# EAGLE library part CDCLVC1112 (library cdclvc11xx_10)
CDCLVC1112 3.3V and 2.5V LVCMOS High-Performance Clock Buffer - 1:12 Fan-out Source: http://www.ti.com/lit/ds/symlink/cdclvc1112.pdf
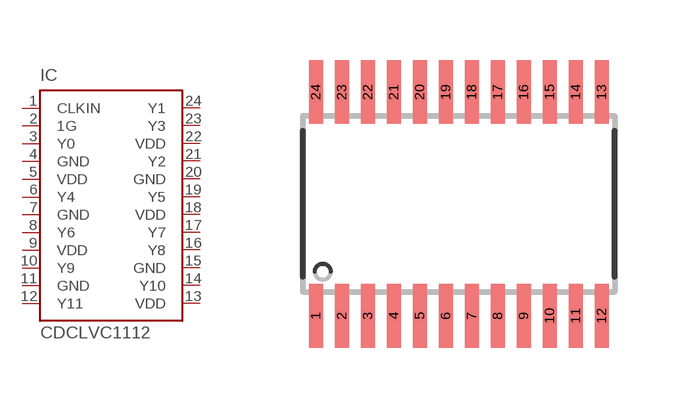
[diagram p6: symbol with the pads of TSSOP24; footprint TSSOP24]

Designator prefix IC

## CDCLVC1112PW (MF: Texas Instruments; MPN: CDCLVC1112; OC_FARNELL: 1829667; OC_NEWARK: 77R3941)  [TSSOP24]
1  CLKIN  in
2  1G  in
3  Y0  out
4  GND  pwr
5  VDD  pwr
6  Y4  out
7  GND  pwr
8  Y6  out
9  VDD  pwr
10  Y9  out
11  GND  pwr
12  Y11  out
13  VDD  pwr
14  Y10  out
15  GND  pwr
16  Y8  out
17  Y7  out
18  VDD  pwr
19  Y5  out
20  GND  pwr
21  Y2  out
22  VDD  pwr
23  Y3  out
24  Y1  out

## Footprint TSSOP24 (pad centres in mm)
TSSOP-24 Plastic Thin Srink Small Outline (PW) Source: http://www.ti.com/lit/ds/symlink/cdclvc1112.pdf
smd 0.35 x 1.6: 1 -3.575,-2.8; 2 -2.925,-2.8; 3 -2.275,-2.8; 4 -1.625,-2.8; 5 -0.975,-2.8; 6 -0.325,-2.8; 7 0.325,-2.8; 8 0.975,-2.8; 9 1.625,-2.8; 10 2.275,-2.8; 11 2.925,-2.8; 12 3.575,-2.8; 13 3.575,2.8; 14 2.925,2.8; 15 2.275,2.8; 16 1.625,2.8; 17 0.975,2.8; 18 0.325,2.8; 19 -0.325,2.8; 20 -0.975,2.8; 21 -1.625,2.8; 22 -2.275,2.8; 23 -2.925,2.8; 24 -3.575,2.8